# EAGLE library part 111RLF (library cchow_2014)
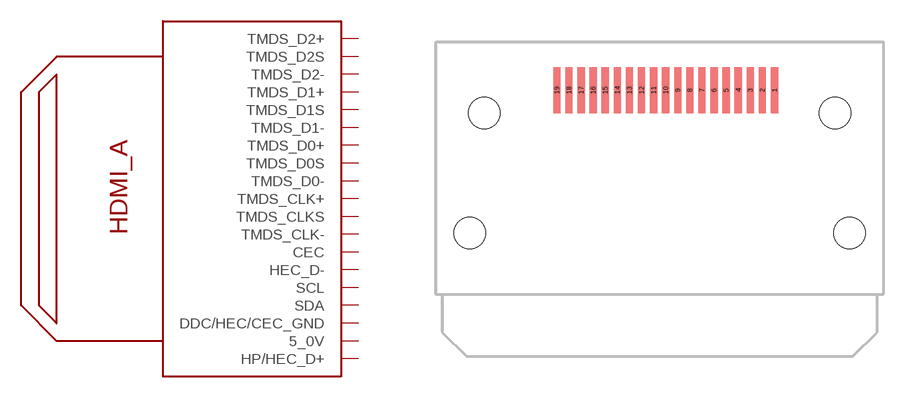
[diagram p1: symbol with the pads of 111RLF; footprint 111RLF]

Designator prefix -

## 111RLF  [111RLF]
1  TMDS_D2+
2  TMDS_D2S
3  TMDS_D2-
4  TMDS_D1+
5  TMDS_D1S
6  TMDS_D1-
7  TMDS_D0+
8  TMDS_D0S
9  TMDS_D0-
10  TMDS_CLK+
11  TMDS_CLKS
12  TMDS_CLK-
13  CEC
14  HEC_D-
15  SCL
16  SDA
17  DDC/HEC/CEC_GND
18  5_0V
19  HP/HEC_D+

## Footprint 111RLF (pad centres in mm)
smd 0.3 x 1.9: 1 4.75,0; 2 4.25,0; 3 3.75,0; 4 3.25,0; 5 2.75,0; 6 2.25,0; 7 1.75,0; 8 1.25,0; 9 0.75,0; 10 0.25,0; 11 -0.25,0; 12 -0.75,0; 13 -1.25,0; 14 -1.75,0; 15 -2.25,0; 16 -2.75,0; 17 -3.25,0; 18 -3.75,0; 19 -4.25,0
hole 1.3 at -7.25,-0.95
hole 1.3 at 7.25,-0.95
hole 1.3 at -7.85,-5.9
hole 1.3 at 7.85,-5.9